# EAGLE library part STM32F407ZGT6 (library st-microelectronics)
STM32F405_415_407_417_LQFP144 edit this description Auto generated by make-symbol-device-package-bsdl.ulp Rev. 44 Source: STM32F405_415_407_417_LQFP144.bsd
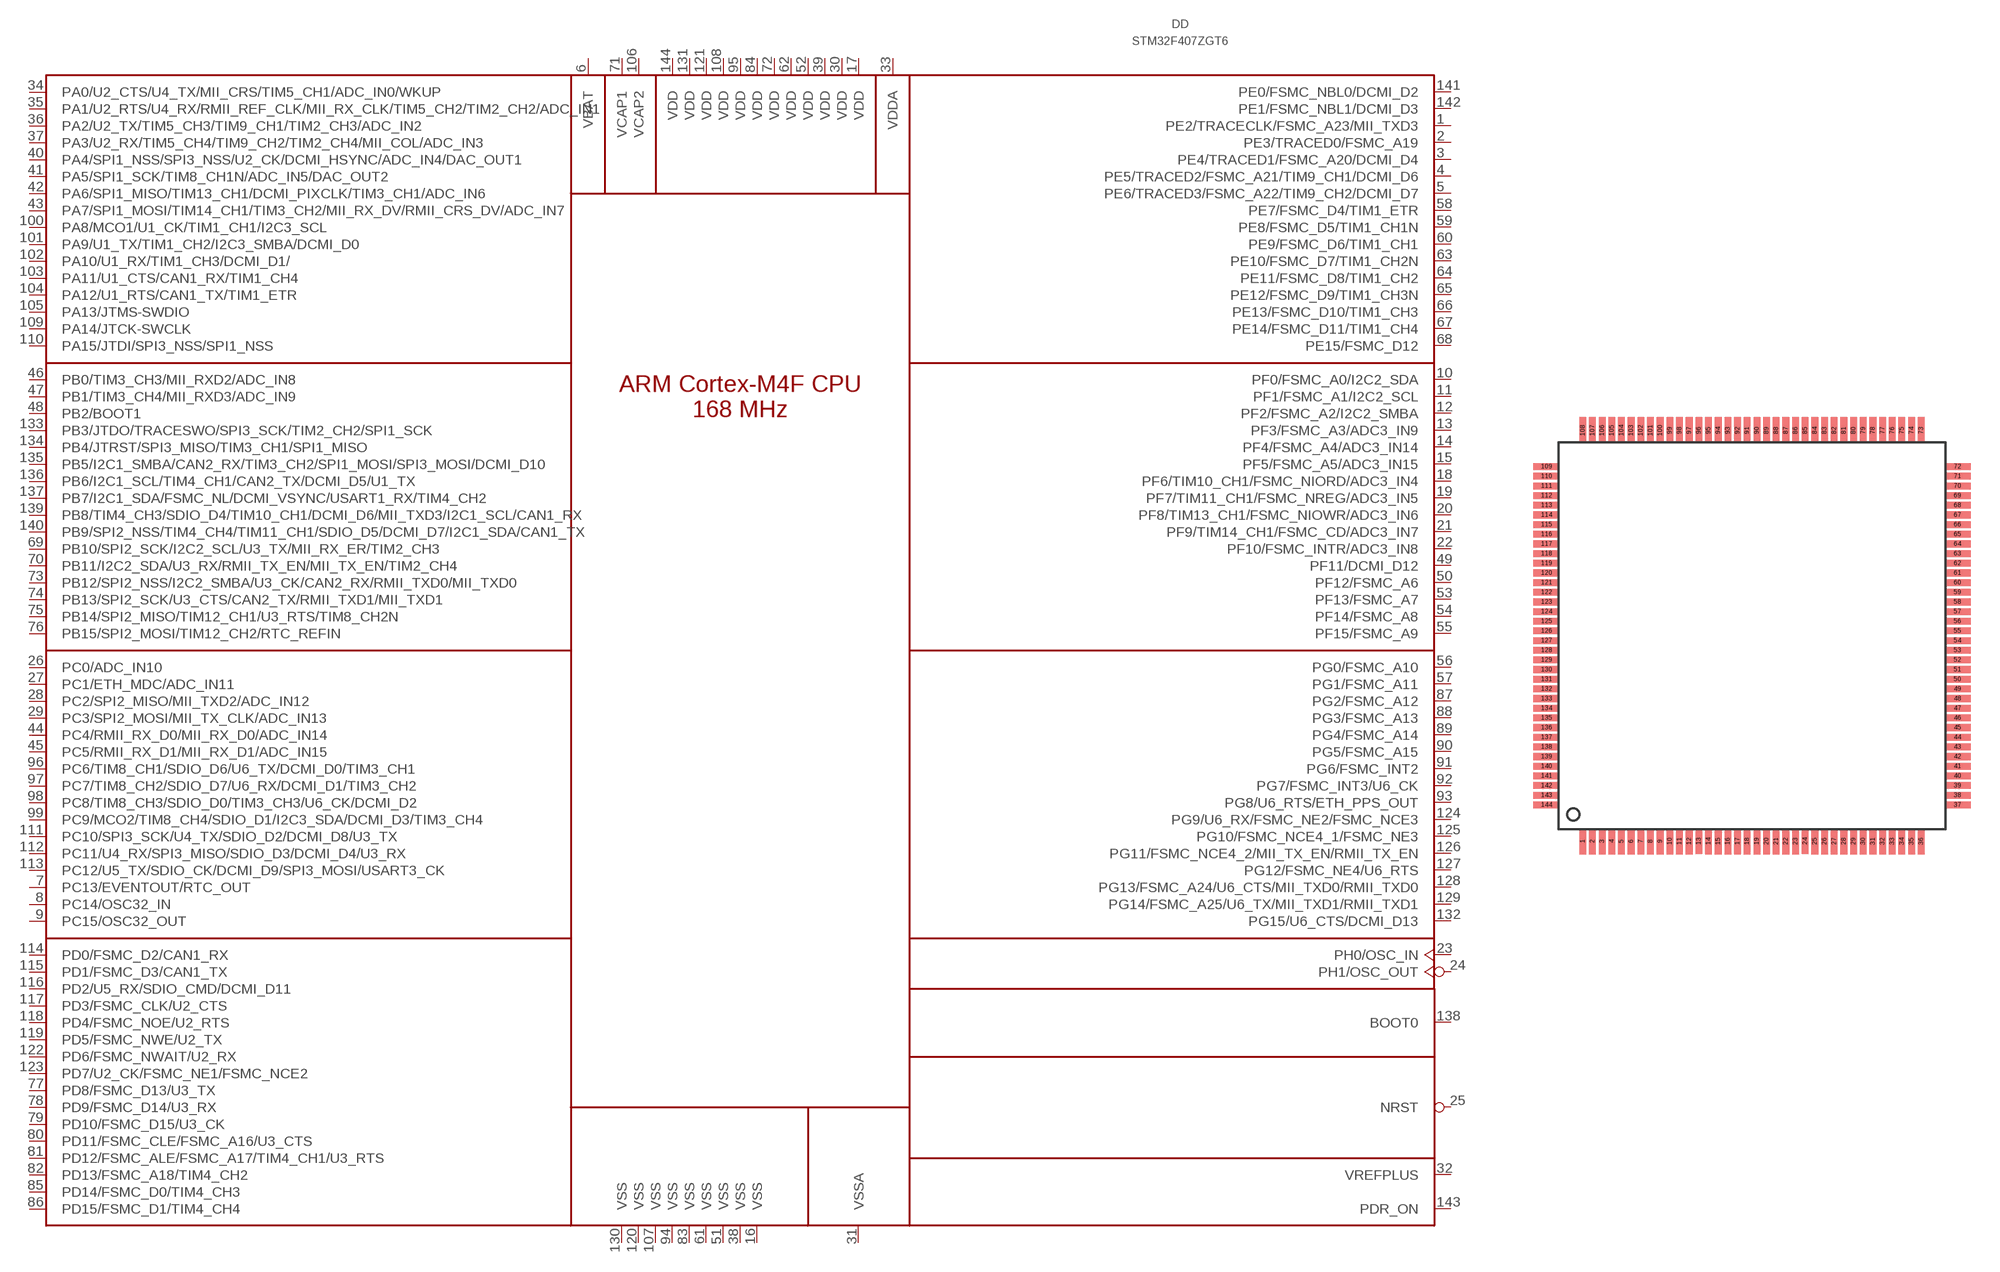
[diagram p17: symbol with the pads of LQFP144; footprint LQFP144]

Designator prefix DD

## STM32F407ZGT6  [LQFP144]
1  PE2/TRACECLK/FSMC_A23/MII_TXD3
2  PE3/TRACED0/FSMC_A19
3  PE4/TRACED1/FSMC_A20/DCMI_D4
4  PE5/TRACED2/FSMC_A21/TIM9_CH1/DCMI_D6
5  PE6/TRACED3/FSMC_A22/TIM9_CH2/DCMI_D7
6  VBAT  pas
7  PC13/EVENTOUT/RTC_OUT
8  PC14/OSC32_IN
9  PC15/OSC32_OUT
10  PF0/FSMC_A0/I2C2_SDA
11  PF1/FSMC_A1/I2C2_SCL
12  PF2/FSMC_A2/I2C2_SMBA
13  PF3/FSMC_A3/ADC3_IN9
14  PF4/FSMC_A4/ADC3_IN14
15  PF5/FSMC_A5/ADC3_IN15
16  VSS  pwr
17  VDD  pwr
18  PF6/TIM10_CH1/FSMC_NIORD/ADC3_IN4
19  PF7/TIM11_CH1/FSMC_NREG/ADC3_IN5
20  PF8/TIM13_CH1/FSMC_NIOWR/ADC3_IN6
21  PF9/TIM14_CH1/FSMC_CD/ADC3_IN7
22  PF10/FSMC_INTR/ADC3_IN8
23  PH0/OSC_IN
24  PH1/OSC_OUT
25  NRST  in
26  PC0/ADC_IN10
27  PC1/ETH_MDC/ADC_IN11
28  PC2/SPI2_MISO/MII_TXD2/ADC_IN12
29  PC3/SPI2_MOSI/MII_TX_CLK/ADC_IN13
30  VDD  pwr
31  VSSA  pwr
32  VREFPLUS  pas
33  VDDA  pwr
34  PA0/U2_CTS/U4_TX/MII_CRS/TIM5_CH1/ADC_IN0/WKUP
35  PA1/U2_RTS/U4_RX/RMII_REF_CLK/MII_RX_CLK/TIM5_CH2/TIM2_CH2/ADC_IN1
36  PA2/U2_TX/TIM5_CH3/TIM9_CH1/TIM2_CH3/ADC_IN2
37  PA3/U2_RX/TIM5_CH4/TIM9_CH2/TIM2_CH4/MII_COL/ADC_IN3
38  VSS  pwr
39  VDD  pwr
40  PA4/SPI1_NSS/SPI3_NSS/U2_CK/DCMI_HSYNC/ADC_IN4/DAC_OUT1
41  PA5/SPI1_SCK/TIM8_CH1N/ADC_IN5/DAC_OUT2
42  PA6/SPI1_MISO/TIM13_CH1/DCMI_PIXCLK/TIM3_CH1/ADC_IN6
43  PA7/SPI1_MOSI/TIM14_CH1/TIM3_CH2/MII_RX_DV/RMII_CRS_DV/ADC_IN7
44  PC4/RMII_RX_D0/MII_RX_D0/ADC_IN14
45  PC5/RMII_RX_D1/MII_RX_D1/ADC_IN15
46  PB0/TIM3_CH3/MII_RXD2/ADC_IN8
47  PB1/TIM3_CH4/MII_RXD3/ADC_IN9
48  PB2/BOOT1
49  PF11/DCMI_D12
50  PF12/FSMC_A6
51  VSS  pwr
52  VDD  pwr
53  PF13/FSMC_A7
54  PF14/FSMC_A8
55  PF15/FSMC_A9
56  PG0/FSMC_A10
57  PG1/FSMC_A11
58  PE7/FSMC_D4/TIM1_ETR
59  PE8/FSMC_D5/TIM1_CH1N
60  PE9/FSMC_D6/TIM1_CH1
61  VSS  pwr
62  VDD  pwr
63  PE10/FSMC_D7/TIM1_CH2N
64  PE11/FSMC_D8/TIM1_CH2
65  PE12/FSMC_D9/TIM1_CH3N
66  PE13/FSMC_D10/TIM1_CH3
67  PE14/FSMC_D11/TIM1_CH4
68  PE15/FSMC_D12
69  PB10/SPI2_SCK/I2C2_SCL/U3_TX/MII_RX_ER/TIM2_CH3
70  PB11/I2C2_SDA/U3_RX/RMII_TX_EN/MII_TX_EN/TIM2_CH4
71  VCAP1  pas
72  VDD  pwr
73  PB12/SPI2_NSS/I2C2_SMBA/U3_CK/CAN2_RX/RMII_TXD0/MII_TXD0
74  PB13/SPI2_SCK/U3_CTS/CAN2_TX/RMII_TXD1/MII_TXD1
75  PB14/SPI2_MISO/TIM12_CH1/U3_RTS/TIM8_CH2N
76  PB15/SPI2_MOSI/TIM12_CH2/RTC_REFIN
77  PD8/FSMC_D13/U3_TX
78  PD9/FSMC_D14/U3_RX
79  PD10/FSMC_D15/U3_CK
80  PD11/FSMC_CLE/FSMC_A16/U3_CTS
81  PD12/FSMC_ALE/FSMC_A17/TIM4_CH1/U3_RTS
82  PD13/FSMC_A18/TIM4_CH2
83  VSS  pwr
84  VDD  pwr
85  PD14/FSMC_D0/TIM4_CH3
86  PD15/FSMC_D1/TIM4_CH4
87  PG2/FSMC_A12
88  PG3/FSMC_A13
89  PG4/FSMC_A14
90  PG5/FSMC_A15
91  PG6/FSMC_INT2
92  PG7/FSMC_INT3/U6_CK
93  PG8/U6_RTS/ETH_PPS_OUT
94  VSS  pwr
95  VDD  pwr
96  PC6/TIM8_CH1/SDIO_D6/U6_TX/DCMI_D0/TIM3_CH1
97  PC7/TIM8_CH2/SDIO_D7/U6_RX/DCMI_D1/TIM3_CH2
98  PC8/TIM8_CH3/SDIO_D0/TIM3_CH3/U6_CK/DCMI_D2
99  PC9/MCO2/TIM8_CH4/SDIO_D1/I2C3_SDA/DCMI_D3/TIM3_CH4
100  PA8/MCO1/U1_CK/TIM1_CH1/I2C3_SCL
101  PA9/U1_TX/TIM1_CH2/I2C3_SMBA/DCMI_D0
102  PA10/U1_RX/TIM1_CH3/DCMI_D1/
103  PA11/U1_CTS/CAN1_RX/TIM1_CH4
104  PA12/U1_RTS/CAN1_TX/TIM1_ETR
105  PA13/JTMS-SWDIO  in
106  VCAP2  pas
107  VSS  pwr
108  VDD  pwr
109  PA14/JTCK-SWCLK  in
110  PA15/JTDI/SPI3_NSS/SPI1_NSS  in
111  PC10/SPI3_SCK/U4_TX/SDIO_D2/DCMI_D8/U3_TX
112  PC11/U4_RX/SPI3_MISO/SDIO_D3/DCMI_D4/U3_RX
113  PC12/U5_TX/SDIO_CK/DCMI_D9/SPI3_MOSI/USART3_CK
114  PD0/FSMC_D2/CAN1_RX
115  PD1/FSMC_D3/CAN1_TX
116  PD2/U5_RX/SDIO_CMD/DCMI_D11
117  PD3/FSMC_CLK/U2_CTS
118  PD4/FSMC_NOE/U2_RTS
119  PD5/FSMC_NWE/U2_TX
120  VSS  pwr
121  VDD  pwr
122  PD6/FSMC_NWAIT/U2_RX
123  PD7/U2_CK/FSMC_NE1/FSMC_NCE2
124  PG9/U6_RX/FSMC_NE2/FSMC_NCE3
125  PG10/FSMC_NCE4_1/FSMC_NE3
126  PG11/FSMC_NCE4_2/MII_TX_EN/RMII_TX_EN
127  PG12/FSMC_NE4/U6_RTS
128  PG13/FSMC_A24/U6_CTS/MII_TXD0/RMII_TXD0
129  PG14/FSMC_A25/U6_TX/MII_TXD1/RMII_TXD1
130  VSS  pwr
131  VDD  pwr
132  PG15/U6_CTS/DCMI_D13
133  PB3/JTDO/TRACESWO/SPI3_SCK/TIM2_CH2/SPI1_SCK  out
134  PB4/JTRST/SPI3_MISO/TIM3_CH1/SPI1_MISO  in
135  PB5/I2C1_SMBA/CAN2_RX/TIM3_CH2/SPI1_MOSI/SPI3_MOSI/DCMI_D10
136  PB6/I2C1_SCL/TIM4_CH1/CAN2_TX/DCMI_D5/U1_TX
137  PB7/I2C1_SDA/FSMC_NL/DCMI_VSYNC/USART1_RX/TIM4_CH2
138  BOOT0  in
139  PB8/TIM4_CH3/SDIO_D4/TIM10_CH1/DCMI_D6/MII_TXD3/I2C1_SCL/CAN1_RX
140  PB9/SPI2_NSS/TIM4_CH4/TIM11_CH1/SDIO_D5/DCMI_D7/I2C1_SDA/CAN1_TX
141  PE0/FSMC_NBL0/DCMI_D2
142  PE1/FSMC_NBL1/DCMI_D3
143  PDR_ON  pas
144  VDD  pwr

## Footprint LQFP144 (pad centres in mm)
LQFP144 20 x 20 mm, 144-pin low-profile quad flat package
smd 0.35 x 1.35: 1 -8.75,-10.625; 2 -8.25,-10.625; 3 -7.75,-10.625; 4 -7.25,-10.625; 5 -6.75,-10.625; 6 -6.25,-10.625; 7 -5.75,-10.625; 8 -5.25,-10.625; 9 -4.75,-10.625; 10 -4.25,-10.625; 11 -3.75,-10.625; 12 -3.25,-10.625; 13 -2.75,-10.62; 14 -2.25,-10.625; 15 -1.75,-10.625; 16 -1.25,-10.625; 17 -0.75,-10.625; 18 -0.25,-10.625; 19 0.25,-10.625; 20 0.75,-10.625; 21 1.25,-10.625; 22 1.75,-10.625; 23 2.25,-10.625; 24 2.75,-10.62; 25 3.25,-10.625; 26 3.75,-10.625; 27 4.25,-10.625; 28 4.75,-10.625; 29 5.25,-10.625; 30 5.75,-10.625; 31 6.25,-10.625; 32 6.75,-10.625; 33 7.25,-10.625; 34 7.75,-10.625; 35 8.25,-10.625; 36 8.75,-10.625; 73 8.75,10.625; 74 8.25,10.625; 75 7.75,10.625; 76 7.25,10.625; 77 6.75,10.625; 78 6.25,10.625; 79 5.75,10.625; 80 5.25,10.625; 81 4.75,10.625; 82 4.25,10.625; 83 3.75,10.625; 84 3.25,10.625; 85 2.75,10.625; 86 2.25,10.625; 87 1.75,10.625; 88 1.25,10.625; 89 0.75,10.625; 90 0.25,10.625; 91 -0.25,10.625; 92 -0.75,10.625; 93 -1.25,10.625; 94 -1.75,10.625; 95 -2.25,10.625; 96 -2.75,10.625; 97 -3.25,10.625; 98 -3.75,10.625; 99 -4.25,10.625; 100 -4.75,10.625; 101 -5.25,10.625; 102 -5.75,10.625; 103 -6.25,10.625; 104 -6.75,10.625; 105 -7.25,10.625; 106 -7.75,10.625; 107 -8.25,10.625; 108 -8.75,10.625
smd 1.35 x 0.35: 37 10.625,-8.75; 38 10.625,-8.25; 39 10.625,-7.75; 40 10.625,-7.25; 41 10.625,-6.75; 42 10.625,-6.25; 43 10.625,-5.75; 44 10.625,-5.25; 45 10.625,-4.75; 46 10.625,-4.25; 47 10.625,-3.75; 48 10.625,-3.25; 49 10.625,-2.75; 50 10.625,-2.25; 51 10.625,-1.75; 52 10.625,-1.25; 53 10.625,-0.75; 54 10.625,-0.25; 55 10.625,0.25; 56 10.625,0.75; 57 10.625,1.25; 58 10.625,1.75; 59 10.625,2.25; 60 10.625,2.75; 61 10.625,3.25; 62 10.625,3.75; 63 10.625,4.25; 64 10.625,4.75; 65 10.625,5.25; 66 10.625,5.75; 67 10.625,6.25; 68 10.625,6.75; 69 10.625,7.25; 70 10.625,7.75; 71 10.625,8.25; 72 10.625,8.75; 109 -10.625,8.75; 110 -10.625,8.25; 111 -10.625,7.75; 112 -10.625,7.25; 113 -10.625,6.75; 114 -10.625,6.25; 115 -10.625,5.75; 116 -10.625,5.25; 117 -10.625,4.75; 118 -10.625,4.25; 119 -10.625,3.75; 120 -10.625,3.25; 121 -10.625,2.75; 122 -10.625,2.25; 123 -10.625,1.75; 124 -10.625,1.25; 125 -10.625,0.75; 126 -10.625,0.25; 127 -10.625,-0.25; 128 -10.625,-0.75; 129 -10.625,-1.25; 130 -10.625,-1.75; 131 -10.625,-2.25; 132 -10.625,-2.75; 133 -10.625,-3.25; 134 -10.625,-3.75; 135 -10.625,-4.25; 136 -10.625,-4.75; 137 -10.625,-5.25; 138 -10.625,-5.75; 139 -10.625,-6.25; 140 -10.625,-6.75; 141 -10.625,-7.25; 142 -10.625,-7.75; 143 -10.625,-8.25; 144 -10.625,-8.75